# EAGLE library part DM3AT-ST-PEJ (library SD Card Socket_MORISHITA)
DM3AT-SF-PEJ DM3AT series , microSD card socket Producted by Hirose(HRS).Co CC : card check (closed at insert ; short CC1 and CC2)
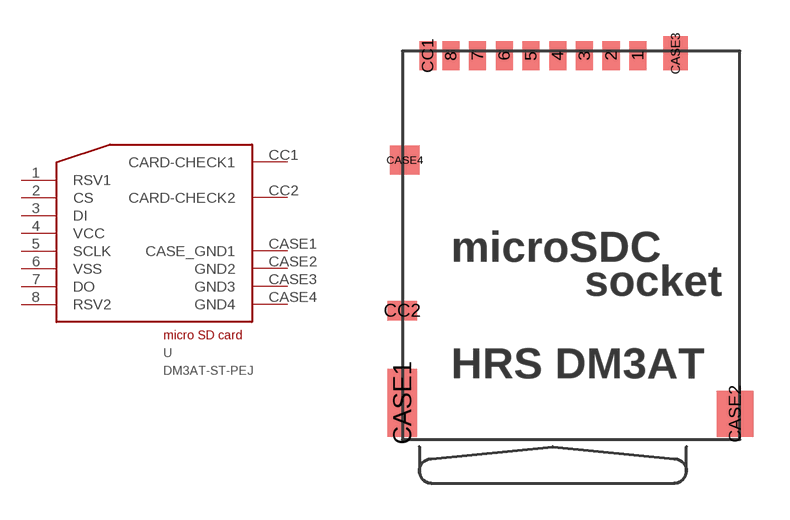
[diagram p0: symbol with the pads of DM3AT-SF-PEJ; footprint DM3AT-SF-PEJ]

Designator prefix -

## DM3AT-ST-PEJ  [DM3AT-SF-PEJ]
1  RSV1  nc
2  CS  in
3  DI  in
4  VCC  pwr
5  SCLK  in
6  VSS  pwr
7  DO  out
8  RSV2  nc
CASE1  CASE_GND1  pwr
CASE2  GND2  pwr
CASE3  GND3  pwr
CASE4  GND4  pwr
CC1  CARD-CHECK1
CC2  CARD-CHECK2

## Footprint DM3AT-SF-PEJ (pad centres in mm)
DM3AT-SF-PEJ DM3AT series , microSD card socket Producted by Hirose(HRS).Co CC : card check (closed at insert ; short CC1 and CC2)
smd 0.7 x 1.2: 1 0,0.6; 2 -1.1,0.6; 3 -2.2,0.6; 4 -3.3,0.6; 5 -4.4,0.6; 6 -5.5,0.6; 7 -6.6,0.6; 8 -7.7,0.6; CC1 -8.65,0.6
smd 1.2 x 2.8: CASE1 -9.7,-13.7
smd 1.5 x 1.9: CASE2 4,-14.15
smd 1 x 1.4: CASE3 1.55,0.7
smd 1.2 x 1.2: CASE4 -9.6,-3.7
smd 1.2 x 0.8: CC2 -9.7,-9.9